# EAGLE library part R5F51105ADFL (library systas0)
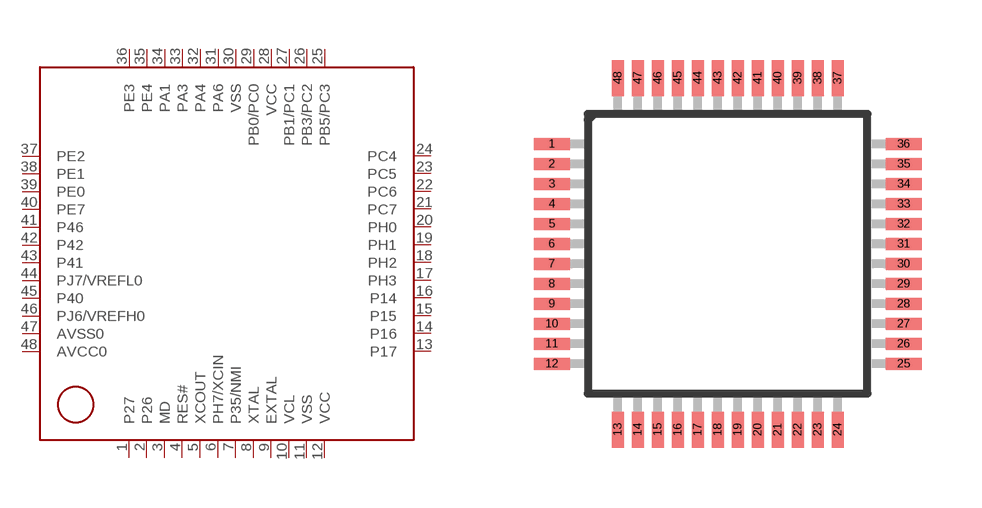
[diagram p16: symbol with the pads of TQFP48; footprint TQFP48]

Designator prefix -

## R5F51105ADFL  [TQFP48]
1  P27
2  P26
3  MD
4  RES#
5  XCOUT
6  PH7/XCIN
7  P35/NMI
8  XTAL
9  EXTAL
10  VCL
11  VSS
12  VCC
13  P17
14  P16
15  P15
16  P14
17  PH3
18  PH2
19  PH1
20  PH0
21  PC7
22  PC6
23  PC5
24  PC4
25  PB5/PC3
26  PB3/PC2
27  PB1/PC1
28  VCC
29  PB0/PC0
30  VSS
31  PA6
32  PA4
33  PA3
34  PA1
35  PE4
36  PE3
37  PE2
38  PE1
39  PE0
40  PE7
41  P46
42  P42
43  P41
44  PJ7/VREFL0
45  P40
46  PJ6/VREFH0
47  AVSS0
48  AVCC0

## Footprint TQFP48 (pad centres in mm)
smd 0.9 x 0.3: 1 -4.4,2.75; 2 -4.4,2.25; 3 -4.4,1.75; 4 -4.4,1.25; 5 -4.4,0.75; 6 -4.4,0.25; 7 -4.4,-0.25; 8 -4.4,-0.75; 9 -4.4,-1.25; 10 -4.4,-1.75; 11 -4.4,-2.25; 12 -4.4,-2.75; 25 4.4,-2.75; 26 4.4,-2.25; 27 4.4,-1.75; 28 4.4,-1.25; 29 4.4,-0.75; 30 4.4,-0.25; 31 4.4,0.25; 32 4.4,0.75; 33 4.4,1.25; 34 4.4,1.75; 35 4.4,2.25; 36 4.4,2.75
smd 0.3 x 0.9: 13 -2.75,-4.4; 14 -2.25,-4.4; 15 -1.75,-4.4; 16 -1.25,-4.4; 17 -0.75,-4.4; 18 -0.25,-4.4; 19 0.25,-4.4; 20 0.75,-4.4; 21 1.25,-4.4; 22 1.75,-4.4; 23 2.25,-4.4; 24 2.75,-4.4; 37 2.75,4.4; 38 2.25,4.4; 39 1.75,4.4; 40 1.25,4.4; 41 0.75,4.4; 42 0.25,4.4; 43 -0.25,4.4; 44 -0.75,4.4; 45 -1.25,4.4; 46 -1.75,4.4; 47 -2.25,4.4; 48 -2.75,4.4